# Altium schematic symbol library L78L12CD13TR.Schlib: 1 symbol
Pins are listed as number, name and electrical type; pins without a type are passive.

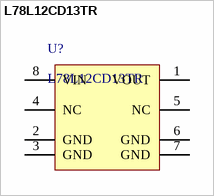
[diagram p0: symbol L78L12CD13TR]

## L78L12CD13TR
designator U?
Linear Voltage Regulator IC Positive Fixed 1 Output 100mA 8-SOIC
pins: 1 VOUT, 2 GND, 3 GND, 4 NC, 5 NC, 6 GND, 7 GND, 8 VIN